# Altium integrated library Buzzer Microphone.IntLib: 8 symbols
Pins are listed as number, name and electrical type; pins without a type are passive.

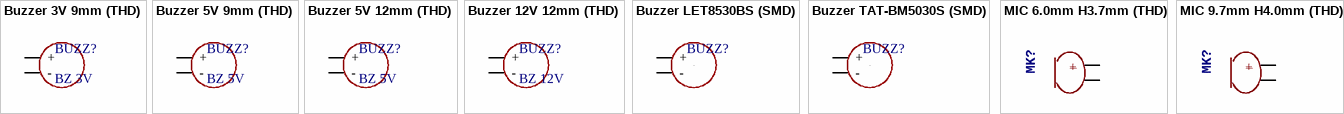
[diagram p0: symbols Buzzer 3V 9mm (THD) to MIC 9.7mm H4.0mm (THD)]

## Buzzer 3V 9mm (THD)
designator BUZZ?, comment BZ 3V
Buzzers Transducer, Externally Driven Magnetic 3V 80mA 2.73kHz 85dB @ 3V, 10cm Through Hole PC Pins; PartNumber: CST-931AP
footprint BUZ_9MM
pins: 1 +, 2 -

## Buzzer 5V 9mm (THD)
designator BUZZ?, comment BZ 5V
Buzzers Transducer, Externally Driven Magnetic 5V 80mA 2.73kHz 85dB @ 5V, 10cm Through Hole PC Pins; PartNumber: CST-951AP
footprint BUZ_9MM
pins: 1 +, 2 -

## Buzzer 5V 12mm (THD)
designator BUZZ?, comment BZ 5V
Buzzers Transducer, Externally Driven Magnetic 3.5V 35mA 2.048kHz 85dB @ 3.5V, 10cm Through Hole PC Pins; PartNumber: AT-1220-TT-9-R
footprint BUZ_12MM
pins: 1 +, 2 -

## Buzzer 12V 12mm (THD)
designator BUZZ?, comment BZ 12V
Buzzers Transducer, Externally Driven Magnetic 12V 40mA 2.4kHz 85dB @ 12V, 10cm Through Hole PC Pins; PartNumber: CEM-1212S
footprint BUZ_12MM
pins: 1 +, 2 -

## Buzzer LET8530BS (SMD)
designator BUZZ?, comment BZ 3V  (value not drawn)
Passive Buzzer SMD; PartNumber: LET8530BS-03L-2.7-16-R
footprint BUZ_SMD2
pins: 1 +, 2 -, 3

## Buzzer TAT-BM5030S (SMD)
designator BUZZ?, comment BZ 3V  (value not drawn)
Passive Buzzer SMD; PartNumber: TAT-BM5030S
footprint BUZ_SMD
pins: 0, 1 +, 2 -

## MIC 6.0mm H3.7mm (THD)
designator MK?, comment MK  (value not drawn)
30Hz ~ 15kHz Analog Microphone Electret Condenser 2V ~ 10V Omnidirectional (-42dB ±3dB) PC Pins; PartNumber: POM-3542P-R
footprint MIC-9.7MM-TALL
pins: 1 GND, 2 OUT
text: +; _

## MIC 9.7mm H4.0mm (THD)
designator MK?, comment MK  (value not drawn)
Analog Microphone Electret Condenser 2V ~ 10V Omnidirectional (-35dB ±4dB) PC Pins; PartNumber: POM-3535P-3-R
footprint MIC-9.7MM-TALL
pins: 1 GND, 2 OUT
text: +; _